# Altium schematic symbol library 74HC4067BQ.SchLib: 1 symbol
Pins are listed as number, name and electrical type; pins without a type are passive.

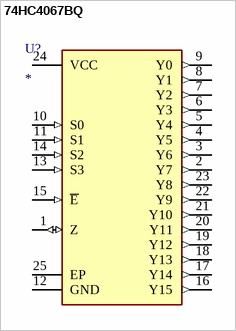
[diagram p0: symbol 74HC4067BQ]

## 74HC4067BQ
designator U?
1 Circuit IC Switch 16:1 120Ohm 24-DHVQFN _5.5x3.5_; MF: Nexperia USA; MP: 74HC4067BQ; Availability: Unavailable; SnapEDA_Link: https://www.snapeda.com/parts/74HC4067BQ/Nexperia%20USA%20Inc./view-part/602696/?ref=snap; Price: None; Package: DHVQFN-24 Nexperia; Value: *
footprint QFN50P550X350X100-25N410X210
pins: 1 Z (io), 2 Y7 (out), 3 Y6 (out), 4 Y5 (out), 5 Y4 (out), 6 Y3 (out), 7 Y2 (out), 8 Y1 (out), 9 Y0 (out), 10 S0 (in), 11 S1 (in), 12 GND (power), 13 S3 (in), 14 S2 (in), 15 ~{E} (in), 16 Y15 (out), 17 Y14 (out), 18 Y13 (out), 19 Y12 (out), 20 Y11 (out), 21 Y10 (out), 22 Y9 (out), 23 Y8 (out), 24 VCC (power), 25 EP (power)